# Altium footprint library Nichicon-UCL-Series.PcbLib: 1 footprints
Each footprint in its own frame and in the unit in brackets; x right, y up, seen from the top. Pads: shape width x height; smd on the part's side, far side on the other; paste and mask are expansions set on the pad; w line width, h text height; cw(c..) or ccw(c..) is an arc to the next point about the centre after c.
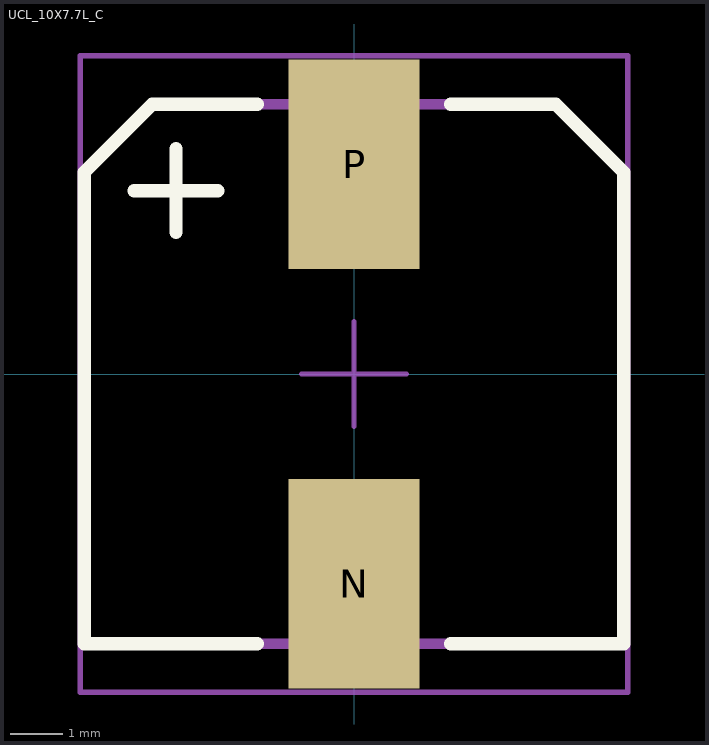
[diagram p0: the footprint, top view; thin cyan lines are the x and y axes]

## UCL_10X7.7L_C [mm]
height 7.7
pads (2):
  rect 2.5x4 smd: N(0,-4) P(0,4)
Top Overlay:
  lines w0.254: -4.2,3.5 -2.6,3.5 ; -3.4,2.7 -3.4,4.3 ; -1.85,-5.15 -5.15,-5.15 -5.15,3.85 -3.85,5.15 -1.85,5.15 ; 1.85,-5.15 5.15,-5.15 5.15,3.85 3.85,5.15 1.85,5.15
Top Assembly:
  lines w0.2: -4.2,3.5 -2.6,3.5 ; -3.4,2.7 -3.4,4.3 ; -5.15,-5.15 -5.15,3.85 -3.85,5.15 3.85,5.15 5.15,3.85 5.15,-5.15 -5.15,-5.15
Top Designator:
  text ".Designator" at -1.3,-0.467 h1
Top Courtyard (Mech15):
  lines w0.1: -1,0 1,0 ; 0,-1 0,1 ; -5.225,-6.075 5.225,-6.075 5.225,6.075 -5.225,6.075 -5.225,-6.075
3D body "CAP_UCD_10X7P7_NCH.step": height 8.26, standoff 0, extent -5.156,-5.651 5.156,5.651